# Altium schematic symbol library Schlib1.SchLib: 2 symbols
Pins are listed as number, name and electrical type; pins without a type are passive.

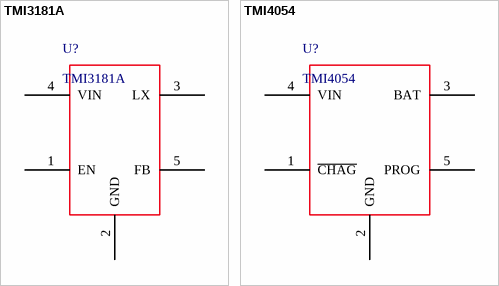
[diagram p0: symbols TMI3181A to TMI4054]

## TMI3181A
designator U?
pins: 1 EN, 2 GND, 3 LX, 4 VIN, 5 FB

## TMI4054
designator U?
pins: 1 ~{CHAG}, 2 GND, 3 BAT, 4 VIN, 5 PROG